# Altium schematic symbol library SCH - POWER - LINEAR VREG - TI LM1086IL-3P3NGN.SchLib: 1 symbol
Pins are listed as number, name and electrical type; pins without a type are passive.

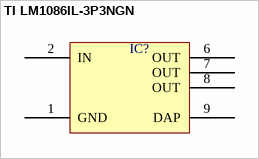
[diagram p0: symbol TI LM1086IL-3P3NGN]

## TI LM1086IL-3P3NGN
designator IC?  (value not drawn)
pins: 1 GND, 2 IN, 6 OUT, 7 OUT, 8 OUT, 9 DAP